# EAGLE library part 43045-0800 (library con-molex-micro-fit)
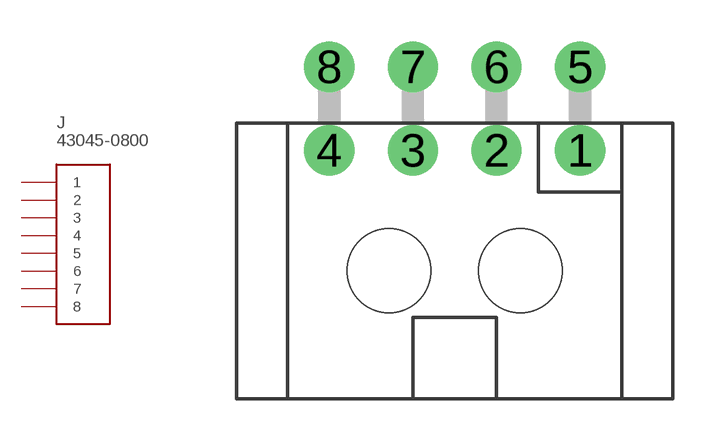
[diagram p2: symbol with the pads of 43045-0800; footprint 43045-0800]

Designator prefix J

## 43045-0800  [43045-0800]
1  1
2  2
3  3
4  4
5  5
6  6
7  7
8  8

## Footprint 43045-0800 (pad centres in mm)
drill 1.2: 1 4.5,0; 2 1.5,0; 3 -1.5,0; 4 -4.5,0; 5 4.5,3; 6 1.5,3; 7 -1.5,3; 8 -4.5,3
hole 3 at -2.35,-4.32
hole 3 at 2.35,-4.32